# EAGLE library part TPS7A8101DRBR (library TPS7A8101DRBR)
TEXAS INSTRUMENTS - TPS7A8101DRBR - LDO, ADJ, 0.8 TO 6V, 1A, SON-8 Source: Datasheet <http://www.ti.com/lit/ds/symlink/tps7a8101.pdf>
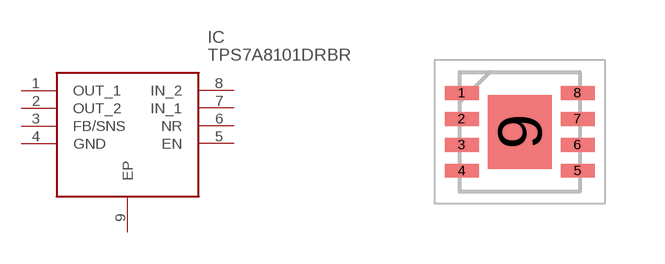
[diagram p0: symbol with the pads of SON65P300X300X100-9N; footprint SON65P300X300X100-9N]

Designator prefix IC

## TPS7A8101DRBR (Description: TEXAS INSTRUMENTS - TPS7A8101DRBR - LDO, ADJ, 0.8 TO 6V, 1A, SON-8; Height: 1mm; Manufacturer_Name: Texas Instruments; Manufacturer_Part_Number: TPS7A8101DRBR; Mouser_Part_Number: 595-TPS7A8101DRBR; Mouser_Price-Stock: https://www.mouser.com/Search/Refine.aspx?Keyword=595-TPS7A8101DRBR)  [SON65P300X300X100-9N]
1  OUT_1
2  OUT_2
3  FB/SNS
4  GND
5  EN
6  NR
7  IN_1
8  IN_2
9  EP

## Footprint SON65P300X300X100-9N (pad centres in mm)
DRB0008A
smd 0.85 x 0.35: 1 -1.45,0.975; 2 -1.45,0.325; 3 -1.45,-0.325; 4 -1.45,-0.975; 5 1.45,-0.975; 6 1.45,-0.325; 7 1.45,0.325; 8 1.45,0.975
smd 1.6 x 1.85: 9 0,0